# EAGLE library part TEXAS_INSTRUMENTS-BUCK_CONTROLLER-LM5145RGYR (library Module_Regulators)
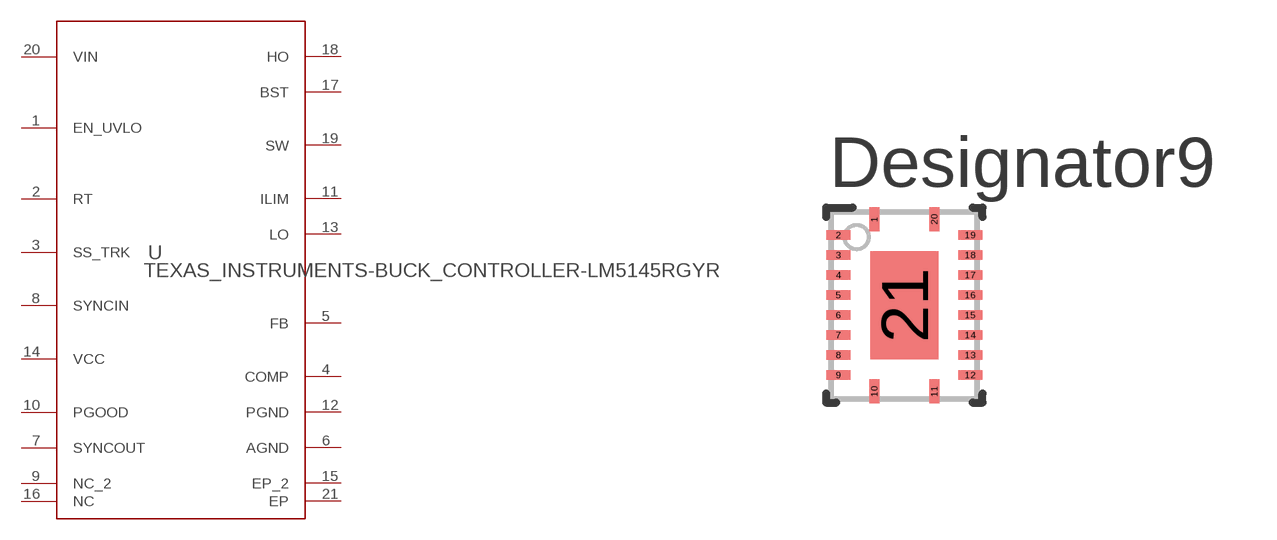
[diagram p19: symbol with the pads of TEXAS_INSTRUMENTS-BUCK_CONTROLLER-LM5145RGYR; footprint TEXAS_INSTRUMENTS-BUCK_CONTROLLER-LM5145RGYR]

Designator prefix U

## TEXAS_INSTRUMENTS-BUCK_CONTROLLER-LM5145RGYR (MANUFACTURER: Texas Instruments; PARTNUMBER: LM5145RGYR; REFDES: RefDes; TYPE: TYPE; VALUE: Value)  [TEXAS_INSTRUMENTS-BUCK_CONTROLLER-LM5145RGYR]
1  EN_UVLO  in
2  RT  in
3  SS_TRK  in
4  COMP  pas
5  FB  in
6  AGND  pwr
7  SYNCOUT  out
8  SYNCIN  in
9  NC_2  pas
10  PGOOD  oc
11  ILIM  in
12  PGND  pwr
13  LO  out
14  VCC  pwr
15  EP_2  pwr
16  NC  pas
17  BST  pas
18  HO  out
19  SW  pwr
20  VIN  pwr
21  EP  pwr

## Footprint TEXAS_INSTRUMENTS-BUCK_CONTROLLER-LM5145RGYR (pad centres in mm)
smd 0.24 x 0.6: 1 -0.75,2.15; 10 -0.75,-2.15; 11 0.75,-2.15; 20 0.75,2.15
smd 0.6 x 0.24: 2 -1.65,1.75; 3 -1.65,1.25; 4 -1.65,0.75; 5 -1.65,0.25; 6 -1.65,-0.25; 7 -1.65,-0.75; 8 -1.65,-1.25; 9 -1.65,-1.75; 12 1.65,-1.75; 13 1.65,-1.25; 14 1.65,-0.75; 15 1.65,-0.25; 16 1.65,0.25; 17 1.65,0.75; 18 1.65,1.25; 19 1.65,1.75
smd 1.7 x 2.7: 21 0,0